# Altium footprint library DGxxx.PcbLib: 11 footprints
Each footprint in its own frame and in the unit in brackets; x right, y up, seen from the top. Pads: shape width x height; smd on the part's side, far side on the other; paste and mask are expansions set on the pad; w line width, h text height; cw(c..) or ccw(c..) is an arc to the next point about the centre after c.
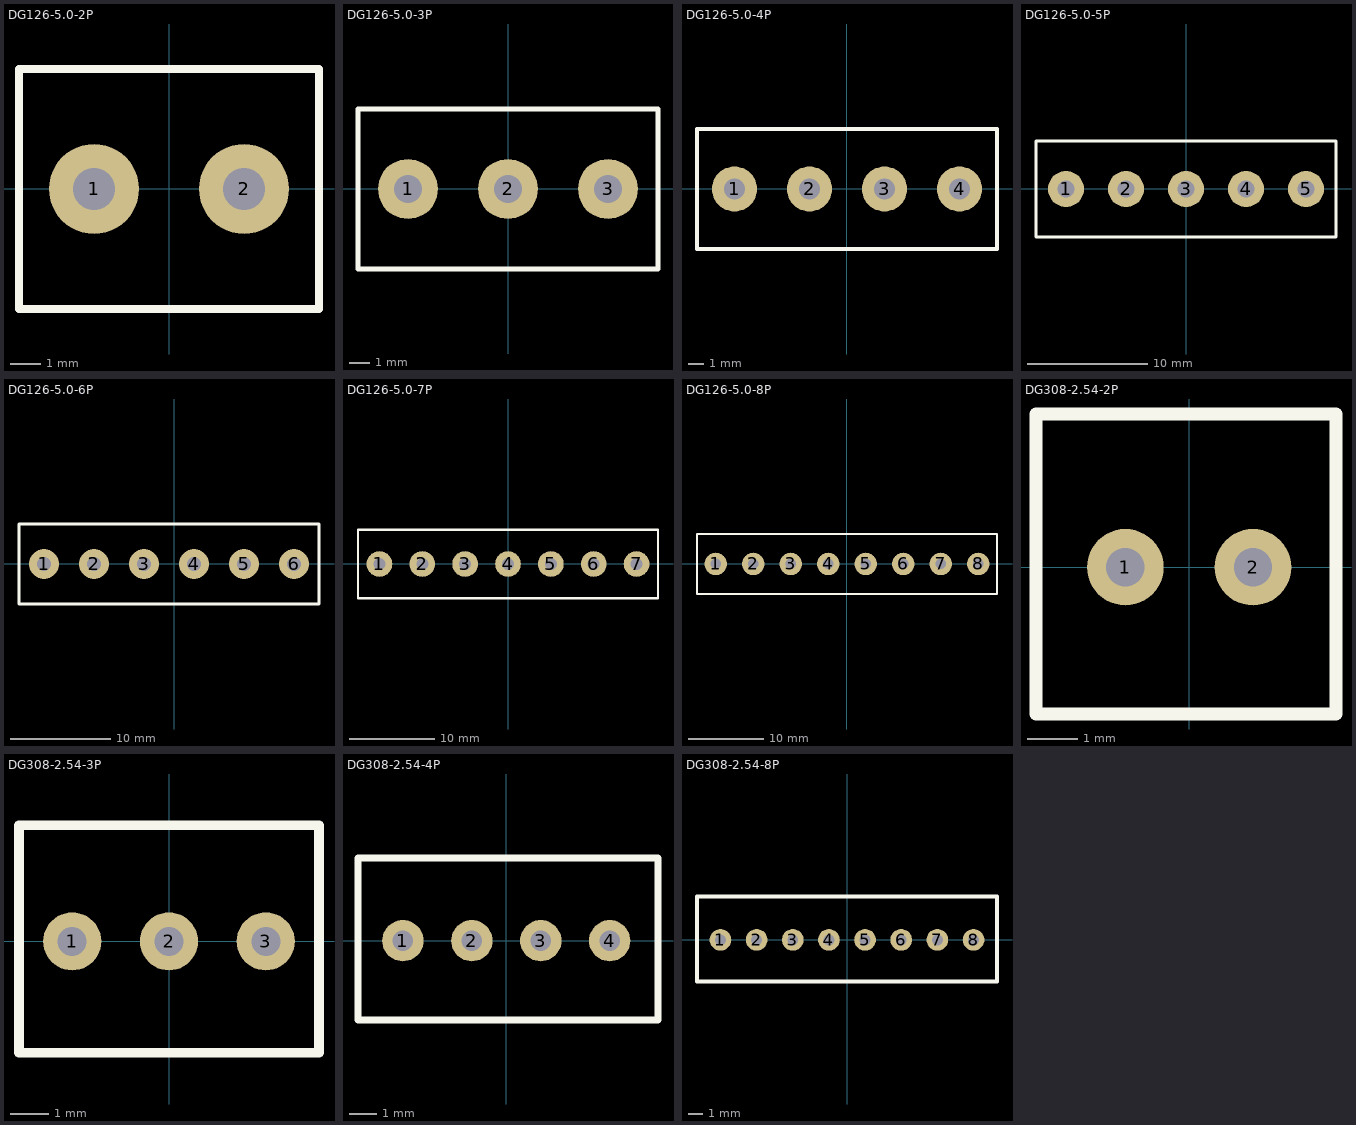
[diagram p0: the footprints below, top view; thin cyan lines are the x and y axes]

## DG126-5.0-2P [mm] "PCB terminal block"
height 10.2
pads (2):
  round 3 hole 1.4: 1(-2.5,0) 2(2.5,0)
Top Overlay:
  lines w0.254: -5,-4 -5,4 5,4 5,-4 -5,-4
3D body "User Library-DT126VP-02P.STEP": height 10.7, standoff -1.7, extent -5,-4.5 5.25,3.3

## DG126-5.0-3P [mm] "PCB terminal block"
height 10.2
pads (3):
  round 3 hole 1.4: 1(-5,0) 2(0,0) 3(5,0)
Top Overlay:
  lines w0.254: -7.5,-4 -7.5,4 7.5,4 7.5,-4 -7.5,-4
3D body "User Library-DT126VP-03P.STEP": height 10.2, standoff -2.2, extent -7.5,-4.5 7.75,3.3

## DG126-5.0-4P [mm] "PCB terminal block"
height 10.2
pads (4):
  round 3 hole 1.4: 1(-7.5,0) 2(-2.5,0) 3(2.5,0) 4(7.5,0)
Top Overlay:
  lines w0.254: -10,-4 -10,4 10,4 10,-4 -10,-4

## DG126-5.0-5P [mm] "PCB terminal block"
height 10.2
pads (5):
  round 3 hole 1.4: 1(-10,0) 2(-5,0) 3(0,0) 4(5,0) 5(10,0)
Top Overlay:
  lines w0.254: -12.5,-4 12.5,-4 12.5,4 -12.5,4 -12.5,-4

## DG126-5.0-6P [mm] "PCB terminal block"
height 10.2
pads (6):
  round 3 hole 1.4: 1(-13,0) 2(-8,0) 3(-3,0) 4(2,0) 5(7,0) 6(12,0)
Top Overlay:
  lines w0.254: -15.5,-4 -15.5,4 14.5,4 14.5,-4 -15.5,-4

## DG126-5.0-7P [mm] "PCB terminal block"
height 10.2
pads (7):
  round 3 hole 1.4: 1(-15,0) 2(-10,0) 3(-5,0) 4(0,0) 5(5,0) 6(10,0) 7(15,0)
Top Overlay:
  lines w0.254: -17.5,-4 17.5,-4 17.5,4 -17.5,4 -17.5,-4

## DG126-5.0-8P [mm] "PCB terminal block"
height 10.2
pads (8):
  round 3 hole 1.4: 1(-17.5,0) 2(-12.5,0) 3(-7.5,0) 4(-2.5,0) 5(2.5,0) 6(7.5,0) 7(12.5,0) 8(17.5,0)
Top Overlay:
  lines w0.254: -20,-4 20,-4 20,4 -20,4 -20,-4
3D body "User Library-DT126VP-08P.STEP": height 10.2, standoff -2.2, extent -20.25,-3.9 20,3.9

## DG308-2.54-2P [mil] "PCB terminal block"
height 334.65
pads (2):
  round 60 hole 30: 1(-50,0) 2(50,0)
Top Overlay:
  lines w10: -120,-115 -120,120 115,120 115,-115 -120,-115
3D body "User Library-DG308-2.step": height 308.12, standoff -157.48, extent -118.35,-118.54 110,118.54

## DG308-2.54-3P [mil] "PCB terminal block"
height 334.65
pads (3):
  round 60 hole 30: 1(-100,0) 2(0,0) 3(100,0)
Top Overlay:
  lines w10: -155,-115 155,-115 155,120 -155,120 -155,-115
3D body "User Library-DG308-3.step": height 308.12, standoff -157.48, extent -159.96,-117.08 155,120

## DG308-2.54-4P [mil] "PCB terminal block"
height 334.65
pads (4):
  round 60 hole 30: 1(-150,0) 2(-50,0) 3(50,0) 4(150,0)
Top Overlay:
  lines w10: -215,-115 -215,120 220,120 220,-115 -215,-115
3D body "User Library-DG308-4.step": height 308.12, standoff -157.48, extent -215,-117.08 218.07,120

## DG308-2.54-8P [mil] "PCB terminal block"
height 334.65
pads (8):
  round 60 hole 30: 1(-350,0) 2(-250,0) 3(-150,0) 4(-50,0) 5(50,0) 6(150,0) 7(250,0) 8(350,0)
Top Overlay:
  lines w10: -415,-115 415,-115 415,120 -415,120 -415,-115
3D body "User Library-DG308-8.step": height 308.12, standoff -157.48, extent -413.99,-117.08 412.78,120.01